# Altium schematic symbol library SMD1812P200TF_16.Schlib: 1 symbol
Pins are listed as number, name and electrical type; pins without a type are passive.

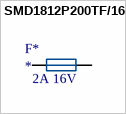
[diagram p0: symbol SMD1812P200TF/16]

## SMD1812P200TF/16
designator F*  value 2A 16V
16V 4A 1812 PTC Resettable Fuses RoHS; ComponentLink1Description: LCSC - RUILON(Shenzhen Ruilongyuan Elec) SMD1812P200TF16; ComponentLink1URL: https://lcsc.com/product-detail/Surface-Mount-Fuses_2-00A-Self-healing-type_C20812.html/?href=jlc-SMT; LCSC Part #: C20812
footprint CH1812F (Chip Fuse, 1812)
pins: 1, 2